# Altium schematic symbol library STM32G473MEY6TR.SchLib: 1 symbol
Pins are listed as number, name and electrical type; pins without a type are passive.

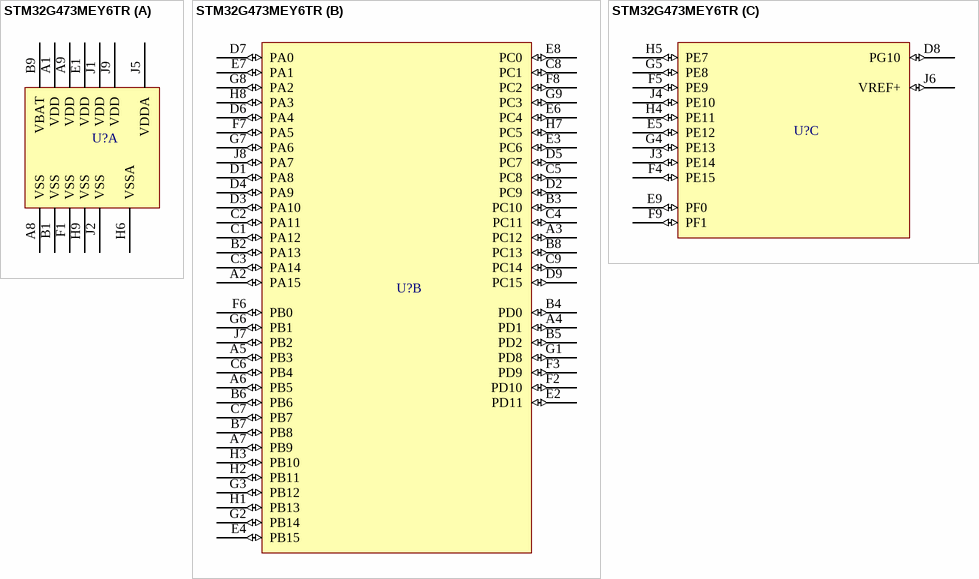
[diagram p0: symbol STM32G473MEY6TR]

## STM32G473MEY6TR
designator U?  (value not drawn)
Mainstream Arm Cortex-M4 MCU 170 MHz with 512 Kbytes of Flash memory, Math Accelerator, High Analog level integration
part A pins: A1 VDD (power), A8 VSS (power), A9 VDD (power), B1 VSS (power), B9 VBAT (power), E1 VDD (power), F1 VSS (power), H6 VSSA (power), H9 VSS (power), J1 VDD (power), J2 VSS (power), J5 VDDA (power), J9 VDD (power)
part B pins: A2 PA15 (io), A3 PC12 (io), A4 PD1 (io), A5 PB3 (io), A6 PB5 (io), A7 PB9 (io), B2 PA13 (io), B3 PC10 (io), B4 PD0 (io), B5 PD2 (io), B6 PB6 (io), B7 PB8 (io), B8 PC13 (io), C1 PA12 (io), C2 PA11 (io), C3 PA14 (io), C4 PC11 (io), C5 PC8 (io), C6 PB4 (io), C7 PB7 (io), C8 PC1 (io), C9 PC14 (io), D1 PA8 (io), D2 PC9 (io), D3 PA10 (io), D4 PA9 (io), D5 PC7 (io), D6 PA4 (io), D7 PA0 (io), D9 PC15 (io), E2 PD11 (io), E3 PC6 (io), E4 PB15 (io), E6 PC4 (io), E7 PA1 (io), E8 PC0 (io), F2 PD10 (io), F3 PD9 (io), F6 PB0 (io), F7 PA5 (io), F8 PC2 (io), G1 PD8 (io), G2 PB14 (io), G3 PB12 (io), G6 PB1 (io), G7 PA6 (io), G8 PA2 (io), G9 PC3 (io), H1 PB13 (io), H2 PB11 (io), H3 PB10 (io), H7 PC5 (io), H8 PA3 (io), J7 PB2 (io), J8 PA7 (io)
part C pins: D8 PG10 (io), E5 PE12 (io), E9 PF0 (io), F4 PE15 (io), F5 PE9 (io), F9 PF1 (io), G4 PE13 (io), G5 PE8 (io), H4 PE11 (io), H5 PE7 (io), J3 PE14 (io), J4 PE10 (io), J6 VREF+ (io)